# EAGLE library part 47590-0001 (library circuit_tree)
IC
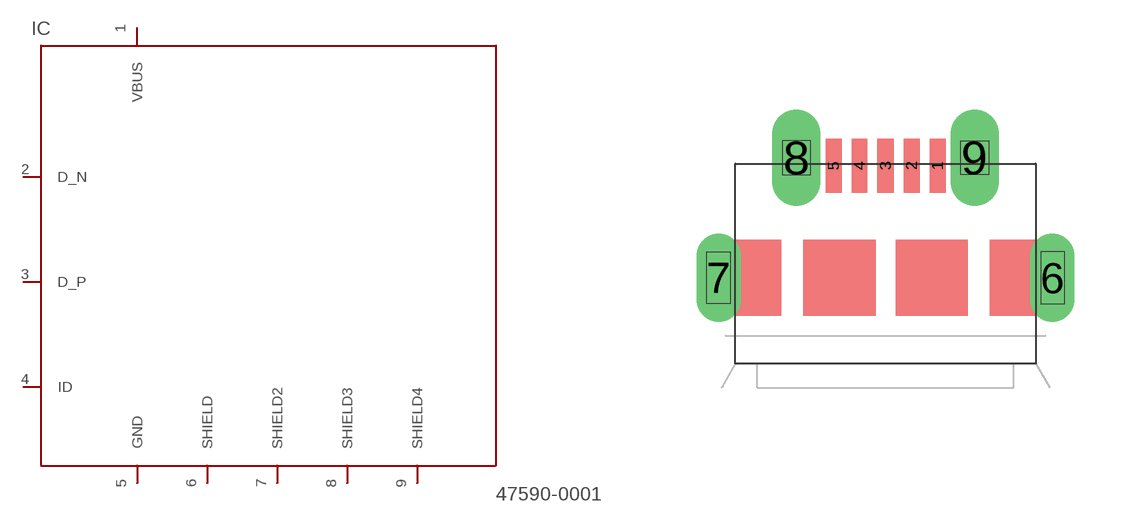
[diagram p2: symbol with the pads of MICRO_USB_AB; footprint MICRO_USB_AB]

Designator prefix IC

## 47590-0001  [MICRO_USB_AB]
1  VBUS  pas
2  D_N  pas
3  D_P  pas
4  ID  pas
5  GND  pas
6  SHIELD  pas
7  SHIELD2  pas
8  SHIELD3  pas
9  SHIELD4  pas

## Footprint MICRO_USB_AB (pad centres in mm)
smd 0.4 x 1.35: 1 1.3,0.26; 2 0.65,0.26; 3 0,0.26; 4 -0.65,0.26; 5 -1.3,0.26
drill 0.6 pad 0.95 long: 6 4.175,-2.54; 7 -4.175,-2.54
drill 0.7 pad 1.1 long: 8 -2.225,0.46; 9 2.225,0.46